# Altium footprint library XAL4020-102ME.PcbLib: 1 footprints
Each footprint in its own frame and in the unit in brackets; x right, y up, seen from the top. Pads: shape width x height; smd on the part's side, far side on the other; paste and mask are expansions set on the pad; w line width, h text height; cw(c..) or ccw(c..) is an arc to the next point about the centre after c.
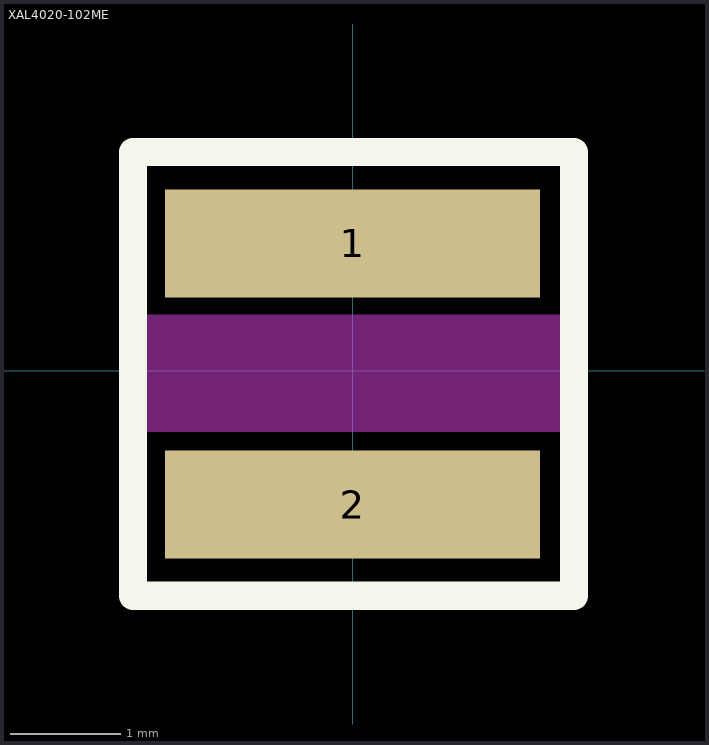
[diagram p0: the footprint, top view; thin cyan lines are the x and y axes]

## XAL4020-102ME [mm]
height 2.2
pads (2):
  rect 3.4x0.98 smd: 1(0,1.154) 2(0,-1.216)
Top Layer keep-out:
  rectangle: -2.108,-0.559 2.134,0.508
Top Overlay:
  lines w0.254: -1.993,1.958 -1.993,-2.042 2.007,-2.042 2.007,1.958 ; -1.993,1.981 2.007,1.981
3D body "Coilcraft-XAL4020.step": height 2.1, standoff 0, extent -2.143,-2.18 2.157,2.12